# Altium footprint library PcbLib1.PcbLib: 264 footprints (part 12 of 17)
Each footprint in its own frame and in the unit in brackets; x right, y up, seen from the top. Pads: shape width x height; smd on the part's side, far side on the other; paste and mask are expansions set on the pad; w line width, h text height; cw(c..) or ccw(c..) is an arc to the next point about the centre after c.
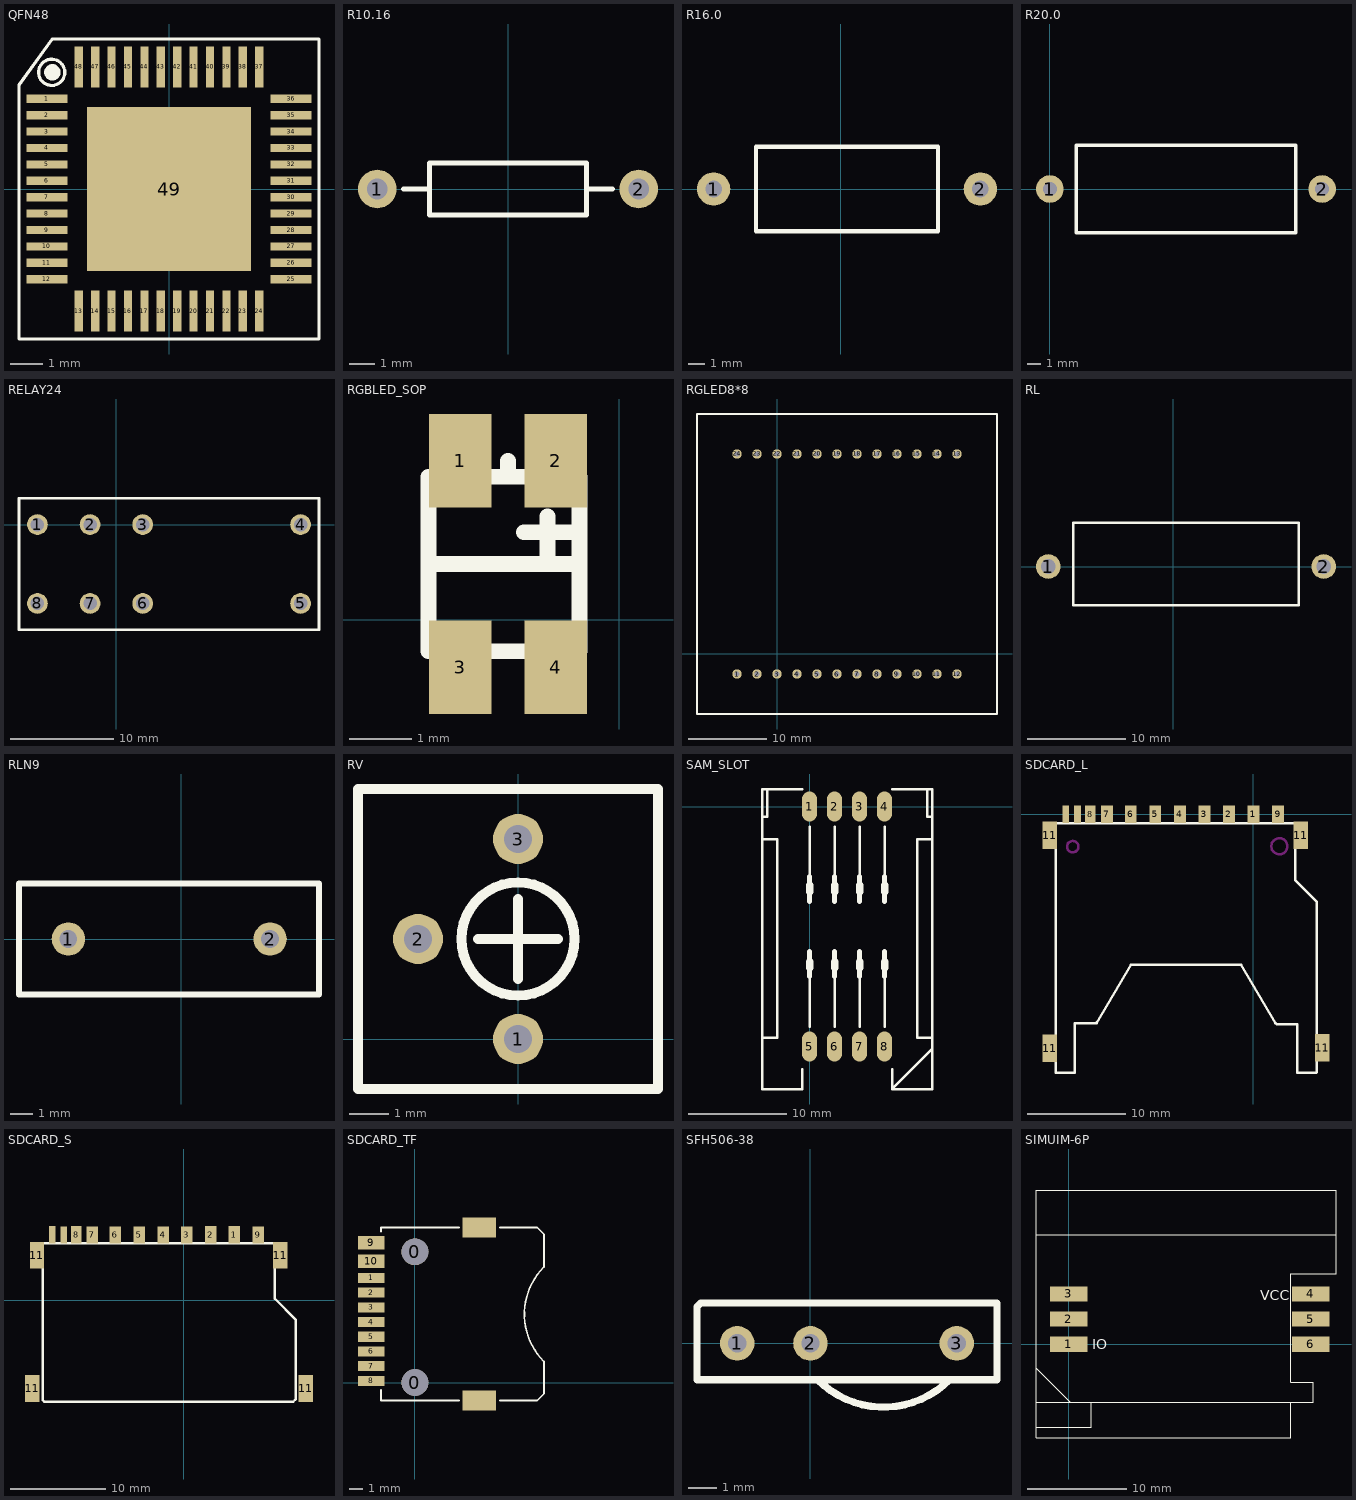
[diagram p11: the footprints below, top view; thin cyan lines are the x and y axes]

## QFN48 [mm] "QFN, 48-Leads, Body 7.0x7.0mm (max), Pitch 0.50mm, IPC Low Density"
height 0.8
pads (49):
  rect 1.25x0.25 smd: 1(-3.725,2.75) 2(-3.725,2.25) 3(-3.725,1.75) 4(-3.725,1.25) 5(-3.725,0.75) 6(-3.725,0.25) 7(-3.725,-0.25) 8(-3.725,-0.75) 9(-3.725,-1.25) 10(-3.725,-1.75) 11(-3.725,-2.25) 12(-3.725,-2.75) 25(3.725,-2.75) 26(3.725,-2.25) 27(3.725,-1.75) 28(3.725,-1.25) 29(3.725,-0.75) 30(3.725,-0.25) 31(3.725,0.25) 32(3.725,0.75) 33(3.725,1.25) 34(3.725,1.75) 35(3.725,2.25) 36(3.725,2.75)
  rect 0.25x1.25 smd: 13(-2.75,-3.725) 14(-2.25,-3.725) 15(-1.75,-3.725) 16(-1.25,-3.725) 17(-0.75,-3.725) 18(-0.25,-3.725) 19(0.25,-3.725) 20(0.75,-3.725) 21(1.25,-3.725) 22(1.75,-3.725) 23(2.25,-3.725) 24(2.75,-3.725) 37(2.75,3.725) 38(2.25,3.725) 39(1.75,3.725) 40(1.25,3.725) 41(0.75,3.725) 42(0.25,3.725) 43(-0.25,3.725) 44(-0.75,3.725) 45(-1.25,3.725) 46(-1.75,3.725) 47(-2.25,3.725) 48(-2.75,3.725)
  rect 5x5 smd: 49(0,0)
Top Overlay:
  circle w0.1: c-3.575,3.556 r0.4
  circle w0.25: c-3.554,3.556 r0.125
  lines w0.1: -4.572,-4.572 4.572,-4.572 4.572,4.572 -3.556,4.572 -4.572,3.175 -4.572,-0.508 -4.572,-4.572
Mechanical 15:
  lines w0.1: -0.5,0 0.5,0 ; 0,-0.5 0,0.5
3D body: height 0.8, standoff 0.01, extent -3.5,-3.5 3.5,3.5

## R10.16 [mm] "STD"
height 4
pads (2):
  round 1.5 hole 0.8: 1(-5.08,0) 2(5.08,0)
Top Overlay:
  lines w0.2: -4.064,0 -3.048,0 ; 3.048,0 4.064,0 ; -3.048,-1.016 3.048,-1.016 3.048,1.016 -3.048,1.016 -3.048,-1.016

## R16.0 [mm] "RX/1W"
pads (2):
  round 2 hole 1: 1(-7.62,0) 2(8.382,0)
Top Overlay:
  lines w0.254: -5.08,-2.54 -5.08,2.54 5.842,2.54 5.842,-2.54 -5.08,-2.54

## R20.0 [mm] "RX/2W"
height 7
pads (2):
  round 2 hole 1: 1(0,0) 2(19.685,0)
Top Overlay:
  lines w0.254: 1.905,-3.175 1.905,3.175 17.78,3.175 17.78,-3.175 1.905,-3.175

## RELAY24 [mm] "HRM1H-S-DC34V-C"
height 20
pads (8):
  round 2 hole 1.3: 1(-7.62,0) 2(-2.54,0) 3(2.54,0) 4(17.78,0) 5(17.78,-7.62) 6(2.54,-7.62) 7(-2.54,-7.62) 8(-7.62,-7.62)
Top Overlay:
  lines w0.254: -9.398,-10.16 19.558,-10.16 19.558,2.54 -9.398,2.54 -9.398,-10.16

## RGBLED_SOP [mm] "SOP_RGB"
height 1
pads (4):
  rect 1x1.5 smd: 1(-2.54,2.54) 2(-1.016,2.54) 3(-2.54,-0.762) 4(-1.016,-0.762)
Top Overlay:
  lines w0.254: -3.048,0.889 -0.635,0.889 ; -1.778,2.286 -1.778,2.54 ; -1.524,1.397 -0.635,1.397 ; -1.143,0.889 -1.143,1.397 -1.143,1.651 ; -3.048,-0.508 -0.635,-0.508 -0.635,2.286 -3.048,2.286 -3.048,1.778 -3.048,0.127 -3.048,-0.508

## RGLED8*8 [mm]
height 8
pads (24):
  round 1.2 hole 0.635: 1(-5.08,-2.54) 2(-2.54,-2.54) 3(0,-2.54) 4(2.54,-2.54) 5(5.08,-2.54) 6(7.62,-2.54) 7(10.16,-2.54) 8(12.7,-2.54) 9(15.24,-2.54) 10(17.78,-2.54) 11(20.32,-2.54) 12(22.86,-2.54) 13(22.86,25.4) 14(20.32,25.4) 15(17.78,25.4) 16(15.24,25.4) 17(12.7,25.4) 18(10.16,25.4) 19(7.62,25.4) 20(5.08,25.4) 21(2.54,25.4) 22(0,25.4) 23(-2.54,25.4) 24(-5.08,25.4)
Top Overlay:
  lines w0.254: -10.16,-7.62 -10.16,30.48 -7.62,30.48 27.94,30.48 27.94,-7.62 -10.16,-7.62

## RL [mm] "10o/0.7uH"
height 15
pads (2):
  round 2.5 hole 1.5: 1(-12.7,0) 2(15.24,0)
Top Overlay:
  lines w0.254: -10.16,-3.937 -5.08,-3.937 7.62,-3.937 12.7,-3.937 12.7,4.445 -10.16,4.445 -10.16,-3.937

## RLN9 [mm] "13.5mm*5.1mm"
height 18.2
pads (2):
  round 1.5 hole 0.8: 1(-5.08,0) 2(4,0)
Top Overlay:
  lines w0.254: -7.3,-2.5 6.2,-2.5 6.2,2.5 -7.3,2.5 -7.3,-2.5

## RV [mil]
pads (3):
  round 50 hole 28: 1(0,0) 2(-100,100) 3(0,200)
Top Overlay:
  circle w10: c0,100 r56.57
  lines w10: -40,100 40,100 ; 0,60 0,140 ; -160,-50 -160,250 140,250 140,-50 -160,-50

## SAM_SLOT [mil]
pads (8):
  oval 60x120 smd: 1(0,0) 2(100,0) 3(200,0) 4(300,0) 5(0,-960) 6(100,-960) 7(200,-960) 8(300,-960)
Top Overlay:
  lines w10: -190,-925 -130,-925 -130,-130 -190,-130 ; -190,-40 -170,-40 -170,70 ; -30,-1050 -30,-1130 -190,-1130 -190,70 -30,70 ; 0,-880 0,-580 ; 0,-380 0,-80 ; 100,-880 100,-580 ; 100,-380 100,-80 ; 200,-880 200,-580 ; 200,-380 200,-80 ; 300,-880 300,-580 ; 300,-380 300,-80 ; 330,-1050 330,-1130 ; 330,70 490,70 490,-1130 330,-1130 ; 470,70 470,-40 490,-40 ; 490,-970 330,-1130 ; 490,-925 430,-925 430,-130 490,-130
  lines w20: 0,-680 0,-580 ; 0,-380 0,-280 ; 100,-680 100,-580 ; 100,-380 100,-280 ; 200,-680 200,-580 ; 200,-380 200,-280 ; 300,-680 300,-580 ; 300,-380 300,-280
  lines w30: 0,-645 0,-620 ; 0,-340 0,-315 ; 100,-645 100,-620 ; 100,-340 100,-315 ; 200,-645 200,-620 ; 200,-340 200,-315 ; 300,-645 300,-620 ; 300,-340 300,-315

## SDCARD_L [mm] "SDCARD_LARGE"
height 1
pads (15):
  rect 1.2x1.8 smd: 1(0,0) 2(-2.489,0) 3(-4.983,-0.009) 4(-7.483,-0.009) 5(-9.983,-0.009) 6(-12.483,-0.009) 7(-14.908,-0.009) 9(2.517,-0.009)
  rect 1.1x1.8 smd: 8(-16.612,0)
  rect 0.7x1.8 smd: 10(-17.908,-0.009) 12(-19.101,0)
  rect 1.5x2.8 smd: 11(-20.726,-23.834) 11(-20.726,-2.143) 11(4.826,-2.143) 11(7.01,-23.784)
Top Overlay:
  lines w0.254: -18.158,-21.3 -18.158,-26.3 -20.131,-26.3 -20.131,-0.914 -20.117,-0.9 4.242,-0.9 4.242,-6.71 6.431,-8.899 6.442,-8.899 6.442,-26.273 6.415,-26.3 4.442,-26.3 4.442,-21.402 2.4,-21.402 2.242,-21.244 ; -18.107,-21.294 -16.065,-21.294 -15.907,-21.136 ; -15.958,-21.294 -12.446,-15.3 ; -12.458,-15.3 -1.258,-15.3 2.242,-21.294
Keep-Out Layer:
  circle w0.254: c2.642,-3.26 r0.82
  circle w0.254: c-18.39,-3.3 r0.58

## SDCARD_S [mm] "SDCARD_SMALL"
height 1.524
pads (15):
  rect 1.2x1.8 smd: 1(5.334,6.867) 2(2.845,6.867) 3(0.351,6.858) 4(-2.149,6.858) 5(-4.649,6.858) 6(-7.149,6.858) 7(-9.574,6.858) 9(7.851,6.858)
  rect 1.1x1.8 smd: 8(-11.278,6.867)
  rect 0.7x1.8 smd: 10(-12.574,6.858) 12(-13.767,6.867)
  rect 1.5x2.8 smd: 11(-15.875,-9.271) 11(-15.392,4.724) 11(10.16,4.724) 11(12.827,-9.271)
Top Overlay:
  lines w0.254: -14.797,5.953 -14.783,5.967 ; -14.783,5.967 -14.783,-10.49 -14.605,-10.668 11.522,-10.668 11.776,-10.414 11.776,-2.032 11.765,-2.032 9.576,0.157 9.576,5.967 -14.783,5.967
Multi-Layer:
  circle w0.254: c7.976,3.607 r0.82
  circle w0.254: c-13.056,3.567 r0.58

## SDCARD_TF [mm] "TFCARD"
height 1
pads (14):
  round 2 hole 2: 0(0,-0.002) 0(0,9.777)
  rect 2x0.75 smd: 1(-3.26,7.827) 2(-3.26,6.727) 3(-3.26,5.627) 4(-3.26,4.527) 5(-3.26,3.427) 6(-3.26,2.327) 7(-3.26,1.227) 8(-3.26,0.127)
  rect 2x1 smd: 9(-3.26,10.463) 10(-3.26,9.079)
  rect 2.5x1.5 smd: ""(4.826,-1.348) ""(4.826,11.606)
Top Overlay:
  lines w0.127: -2.54,-1.348 3.302,-1.348 ; -2.54,11.301 -2.54,11.606 3.302,11.606 ; -2.535,-1.348 -2.535,-0.548 ; 6.35,-1.348 9.144,-1.348 9.652,-0.84 9.652,1.319 9.652,1.573 cw(c13.188,5.109) 9.652,8.644 9.652,11.098 9.144,11.606 6.35,11.606

## SFH506-38 [mm]
height 3.81
pads (3):
  round 1.2 hole 0.635: 1(-2.54,0) 2(0,0) 3(5.08,0)
Top Overlay:
  lines w0.254: -3.429,1.397 -3.81,1.397 ; -3.302,1.397 6.35,1.397 ; -2.413,-1.27 6.477,-1.27 6.477,1.397 5.461,1.397 ; -1.905,1.397 -3.81,1.397 ; 0.254,-1.27 ccw(c2.54,1.016) 4.826,-1.27 ; 6.223,-1.27 -3.937,-1.27 -3.937,1.27 -3.81,1.397

## SIMUIM-6P [mil] "SIM;SAM;"
height 78.74
pads (6):
  rect 150x60 smd: 1(0,0) 2(0,100) 3(0,200) 4(960,200) 5(960,100) 6(960,0)
Top Overlay:
  lines w4: -130,-330 60,-330 90,-330 90,-230 ; -130,-230 60,-230 890,-230 970,-230 970,-150 890,-150 880,-150 880,280 890,280 1060,280 1060,610 -130,610 -130,-95 ; -130,435 1060,435 ; 5,-230 -130,-95 ; 880,-230 880,-370 -130,-370 -130,-95
  text "VCC" at 760,174 h40
  text "IO" at 93,-19 h40